# Altium footprint library LEDboard.PcbLib: 4 footprints
Each footprint in its own frame and in the unit in brackets; x right, y up, seen from the top. Pads: shape width x height; smd on the part's side, far side on the other; paste and mask are expansions set on the pad; w line width, h text height; cw(c..) or ccw(c..) is an arc to the next point about the centre after c.
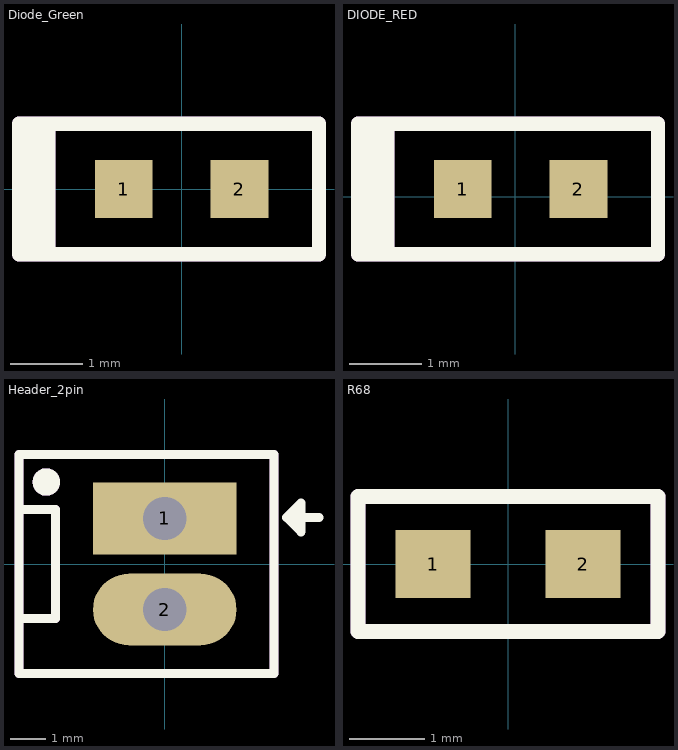
[diagram p0: the footprints below, top view; thin cyan lines are the x and y axes]

## Diode_Green [mm]
pads (2):
  rect 0.8x0.8 smd: 1(-0.8,0) 2(0.8,0)
Top Overlay:
  region: -2.25,-0.9 -2.25,0.9 -1.8,0.9 -1.75,0.85 -1.75,-0.9
  lines w0.2: -2.25,-0.9 1.9,-0.9 1.9,0.9 -2.25,0.9 -2.25,0.05 -2.25,-0.9
Mechanical 29:
  region: -2.25,-0.9 -2.25,0.9 -1.8,0.9 -1.75,0.85 -1.75,-0.9
  lines w0.2: -2.25,-0.75 -2.25,0.8 ; -2.25,-0.9 1.9,-0.9 1.9,0.9 -2.25,0.9 -2.25,0.05 -2.25,-0.9
  text "'.Designator'" at -2.17,-0.503 h0.5
3D body "led_verde_0603.stp": height 0.4, standoff 0, extent -0.8,-0.4 0.8,0.4

## DIODE_RED [mm]
pads (2):
  rect 0.8x0.8 smd: 1(-0.728,0.105) 2(0.872,0.105)
Top Overlay:
  region: -2.178,-0.795 -2.178,1.005 -1.728,1.005 -1.678,0.955 -1.678,-0.795
  lines w0.2: -2.178,-0.795 -2.178,0.155 -2.178,1.005 1.972,1.005 1.972,-0.795 -2.178,-0.795
Mechanical 29:
  region: -2.178,-0.795 -2.178,1.005 -1.728,1.005 -1.678,0.955 -1.678,-0.795
  lines w0.2: -2.178,-0.645 -2.178,0.905 ; -2.178,-0.795 -2.178,0.155 -2.178,1.005 1.972,1.005 1.972,-0.795 -2.178,-0.795
  text "'.Designator'" at -2.098,-0.398 h0.5
3D body "STP_150060xS75000_rev1.stp": height 0.7, standoff 0, extent -0.724,-0.298 0.876,0.502

## Header_2pin [mm]
pads (2):
  rect 4x2 hole 1.2: 1(0,1.27)
  oval 4x2 hole 1.2: 2(0,-1.27)
Top Overlay:
  circle w0.254: c-3.302,2.286 r0.254
  rectangle: -3.556,2.032 -3.048,2.54
  lines w0.254: -4.064,-1.524 -3.048,-1.524 -3.048,1.524 -4.064,1.524 ; 4.3,1.3 3.4,1.3 ; 3.4,1.3 3.8,0.9 ; 3.4,1.3 3.8,0.9 ; 3.4,1.3 3.8,1.7 3.8,0.9 ; -4.064,-3.048 -4.064,3.048 3.048,3.048 3.048,-3.048 -4.064,-3.048
Mechanical 29:
  circle w0.254: c-3.302,2.286 r0.254
  rectangle: -3.556,2.032 -3.048,2.54
  lines w0.254: -4.064,-1.524 -3.048,-1.524 -3.048,1.524 -4.064,1.524 ; -4.064,-3.048 -4.064,3.048 3.048,3.048 3.048,-3.048 -4.064,-3.048
  text "'.Designator'" at -0.78,-0.213 h0.8
3D body "Header_Molex.stp": height 11.71, standoff -3.55, extent -2.85,-2.525 2.95,2.555

## R68 [mm]
pads (2):
  rect 1x0.9 smd: 1(-1,0) 2(1,0)
Top Overlay:
  lines w0.2: -2,-0.9 -2,0.55 -2,0.9 2,0.9 2,-0.9 -2,-0.9
Mechanical 29:
  lines w0.2: -2,-0.9 -2,0.55 -2,0.9 2,0.9 2,-0.9 -2,-0.9
  text "'.Designator'" at -1.08,-0.313 h0.8
3D body "resistor0603.stp": height 0.46, standoff 0.01, extent -0.8,-0.403 0.803,0.403